# Altium footprint library DIN_RAIL_BRACKET_35MM.PcbLib: 1 footprints
Each footprint in its own frame and in the unit in brackets; x right, y up, seen from the top. Pads: shape width x height; smd on the part's side, far side on the other; paste and mask are expansions set on the pad; w line width, h text height; cw(c..) or ccw(c..) is an arc to the next point about the centre after c.
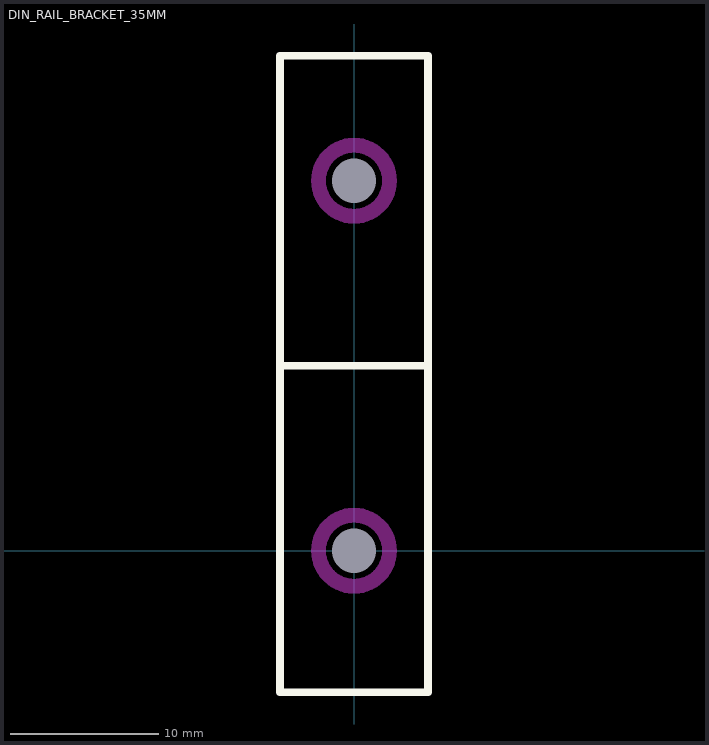
[diagram p0: the footprint, top view; thin cyan lines are the x and y axes]

## DIN_RAIL_BRACKET_35MM [mm]
pads (2):
  round 0 hole 3 unplated: 1(0,0) 1(0,25)
Top Overlay:
  lines w0.508: -5,12.5 5,12.5 ; -5,-9.558 5,-9.558 5,33.442 -5,33.442 -5,-9.558
Bottom Overlay:
  circle w0.254: c0,0 r2.4
  circle w0.254: c0,25 r2.4
Keep-Out Layer:
  circle w1: c0,0 r2.4
  circle w1: c0,25 r2.4
3D body "din_clip.SLDPRT": height 13, standoff 0, extent -5,-9.3 5,33.3